# Altium schematic symbol library 8ch_RGB_Controller.SCHLIB: 19 symbols
Pins are listed as number, name and electrical type; pins without a type are passive.

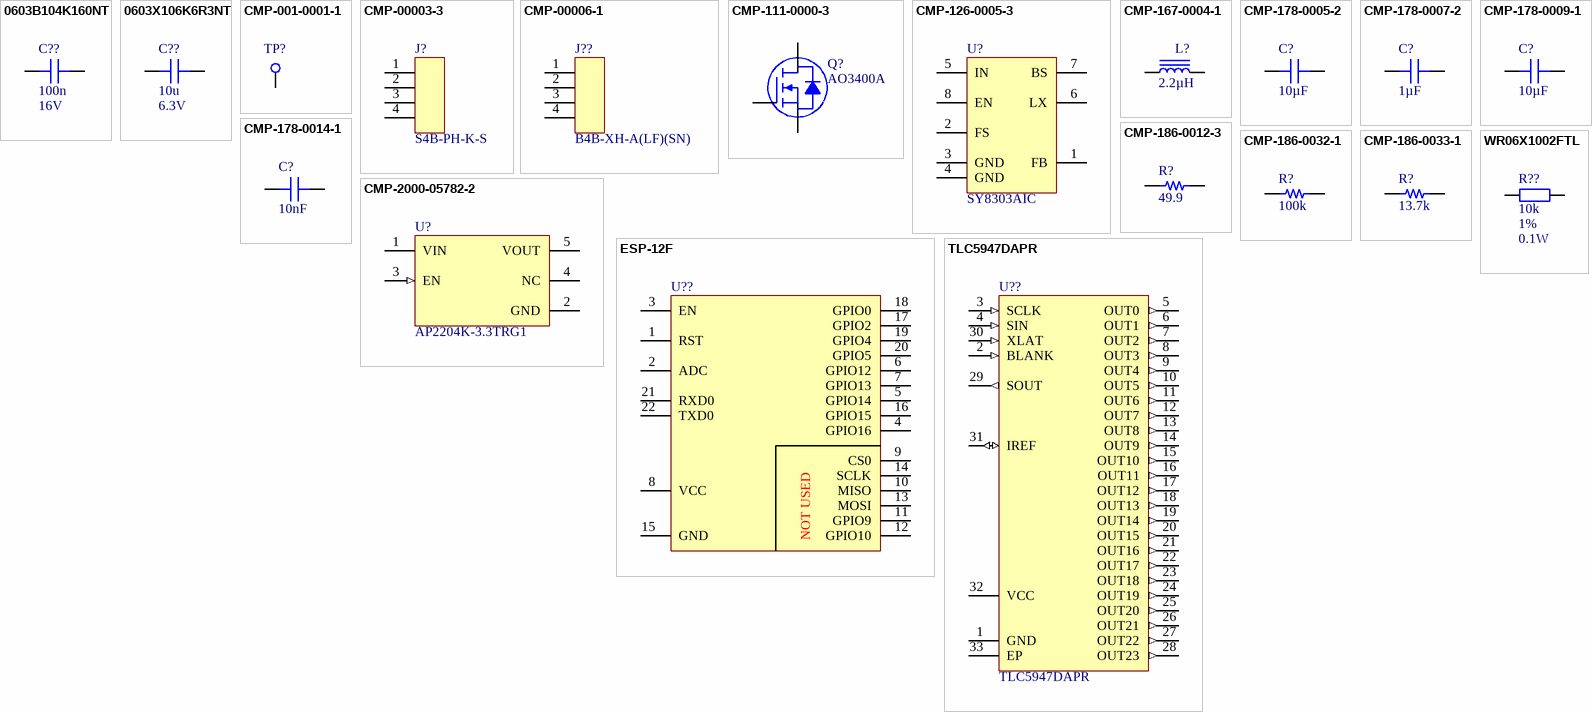
[diagram p0: symbols 0603B104K160NT to WR06X1002FTL]

## 0603B104K160NT
designator C??  Capacitance: 100n  Voltage - Rated: 16V  (hidden comment: 0603B104K160NT)
16V 100nF X7R ±10% 0603 Multilayer Ceramic Capacitors MLCC - SMD/SMT ROHS; Manufacturer: FH (Guangdong Fenghua Advanced Tech); Product Status: Active; PartNumber: 0603B104K160NT; ComponentLink1URL: https://datasheet.lcsc.com/lcsc/2201241400_FH--Guangdong-Fenghua-Advanced-Tech-0603B104K160NT_C2846678.pdf; ComponentLink1Description: Datasheet; Package: 0603; Series: -; Tolerance: 10%; Temperature Coefficient: X7R; Operating Temperature: -55 - 125 ℃; Features: -; Ratings: -; Applications: -; Failure Rate: -; Mounting Type: SMT; Package/Case: 0603; Size/Dimension: 1.6 x 0.8mm; Height-Seated (Max): 0.8mm; Thickness (Max): -; Lead Spacing: -; Lead Style: -
footprint CAPC1608X09N
pins: 1, 2

## 0603X106K6R3NT
designator C??  Capacitance: 10u  Voltage - Rated: 6.3V  (hidden comment: 0603X106K6R3NT)
6.3V 10uF X5R ±10% 0603 Multilayer Ceramic Capacitors MLCC - SMD/SMT ROHS; Manufacturer: FH (Guangdong Fenghua Advanced Tech); Product Status: Active; PartNumber: 0603X106K6R3NT; ComponentLink1URL: https://datasheet.lcsc.com/lcsc/2201241400_FH--Guangdong-Fenghua-Advanced-Tech-0603B104K160NT_C2846678.pdf; ComponentLink1Description: Datasheet; Package: 0603; Series: -; Tolerance: 10%; Temperature Coefficient: X5R; Operating Temperature: -55 - 125 ℃; Features: -; Ratings: -; Applications: -; Failure Rate: -; Mounting Type: SMT; Package/Case: 0603; Size/Dimension: 1.6 x 0.8mm; Height-Seated (Max): 0.8mm; Thickness (Max): -; Lead Spacing: -; Lead Style: -
footprint CAPC1608X09N
pins: 1, 2

## CMP-001-0001-1
designator TP?, comment TP_TH_1MM  (value not drawn)
Test point, 1mm, TH; Test signal: Test
footprint TP_TH_1MM_N (TP_TH_1MM)
footprint TP_TH_1MM_M (TP_TH_1MM)
footprint TP_TH_1MM_L (TP_TH_1MM)
pins: 1 TP

## CMP-00003-3
designator J?, comment S4B-PH-K-S
JST (JAPAN SOLDERLESS TERMINALS) - S4B-PH-K-S (LF)(SN) - CONNECTOR, HEADER, 2MM, 4 POSITION, 1ROW; Voltage: 100V; Number of Contacts: 4; Current Rating: 2A; Connector Type: Male Pin; Contact Resistance: 10m; Insulation Resistance: 1G; Gender: Male; Termination: Solder; Contact Mating Length: 0.13inch; Orientation: Right Angle; Pitch: 2mm; Packaging: Bulk; Contact Material: Tin,Brass,Bronze; Flammability Rating: UL94 V-0; Fastening Type: Detent; REACH SVHC: No SVHC; Max Operating Temperature: 85°C; Width: 4.5mm; Voltage Rating: 100V; Voltage Rating (DC): 100V; Voltage Rating (AC): 100V; Lead Pitch: 2mm; Max Current Rating: 2A; Length: 9.9mm; Color: Natural,White; Height: 9.4mm; Current: 2A; Mount: Through Hole; Number of Poles: 4; Max Voltage Rating (DC): 100V; Contact Plating: Tin; Max Voltage Rating (AC): 100V; Lead Free: Lead Free; Number of Positions: 4; Number of Rows: 1; Housing Color: Natural; Min Operating Temperature: -25°C; Number of Pins: 4; Operating Supply Voltage: 100V; Working Voltage: 100V
footprint S4B-PH-K-S (Header, Right Angle Shrouded, 2.00 mm pitch; 0.50 mm lead width, 4 pins, 1 row, 4 pins per row, 9.90 mm L X 7.60 mm W X 4.80 mm H body)
pins: 1, 2, 3, 4

## CMP-00006-1
designator J??, comment B4B-XH-A(LF)(SN)
JST (JAPAN SOLDERLESS TERMINALS) - B4B-XH-A (LF)(SN) - Wire-To-Board-Steckverbinder, vertikal, 2.5 mm, 4 Kontakt(e), Stiftleiste, Baureihe XH; Voltage Rating (AC): 250V; Connector Type: Male Pin; Insulation Resistance: 1G; Current: 3A; Contact Resistance: 2m; Number of Positions: 4; Pitch: 2.5mm; Wire/Cable Gauge: 22AWG; Gender: Male; Number of Rows: 1; Max Operating Temperature: 85°C; Housing Color: White; Housing Material: Polyamide; Color: Natural; Length: 12.4mm; Contact Plating: Tin,Copper,Lead; Orientation: Straight; Lead Pitch: 2.5mm; Max Voltage Rating (AC): 250V; Contact Material: Brass; Termination: Press-Fit; Max Voltage Rating (DC): 250V; REACH SVHC: No SVHC; Lead Free: Lead Free; Max Current Rating: 3A; Depth: 5.75mm; Number of Contacts: 4; Voltage Rating: 250V; Packaging: Bulk; Min Operating Temperature: -25°C; Material: Polyamide; Current Rating: 3A; Mount: Through Hole; Package Quantity: 500
footprint B4B-XH-A (Header, Vertical Shrouded, 2.54 mm pitch; 0.64 mm lead width, 4 pins, 1 row, 4 pins per row, 12.40 mm L X 5.75 mm W X 7.00 mm H body)
pins: 1, 2, 3, 4

## CMP-111-0000-3
designator Q?, comment AO3400A
Trans MOSFET N-CH 30V 5.7A 3-Pin SOT-23; Manufacturer: Alpha & Omega Semiconductor; Power Dissipation: 1.4W; Rds On Max: 26.5m; Number of Elements: 1; Input Capacitance: 630pF; Gate to Source Voltage (Vgs): 12V; Max Operating Temperature: 150°C; Number of Pins: 3; Radiation Hardening: No; Manufacturer Part Number: AO3400A; Drain to Source Voltage (Vdss): 30V; Packaging: Tape and Reel; Mount: Surface Mount; Case/Package: SOT-23; Continuous Drain Current (ID): 5.7A; Min Operating Temperature: -55°C; Lead Free: Lead Free; Max Power Dissipation: 1.4W
footprint SOT95P237X112-3M (SOT23, 3-Leads, Body 2,93x2,37mm, Pitch 0,95mm, IPC Low Density)
footprint SOT95P237X112-3L (SOT23, 3-Leads, Body 2,93x2,37mm, Pitch 0,95mm, IPC High Density)
footprint SOT95P237X112-3N (SOT23, 3-Leads, Body 2,93x2,37mm, Pitch 0,95mm, IPC Medium Density)
pins: 1 G, 2 S, 3 D

## CMP-126-0005-3
designator U?, comment SY8303AIC
High Efficiency, Fast Response, 3A, 40V Input, Synchronous Step Down Regulator; Manufacturer: Silergy; Min Input Voltage (DC): 4.5V; Frequency: 2.5MHz; Number of Outputs: 1; Efficiency: 98; Height: 1.1mm; Width: 3mm; Max Input Voltage: 40V; Case/Package: TSOT23-8; Length: 3mm; Number of Pins: 8; Max Input Voltage (DC): 40V; Current - Output 1: 3A; Output Current: 3A; Min Input Voltage: 4.5V; Manufacturer Part Number: SY8303AIC; Max Operating Temperature: 105°C; Max Output Current: 3A; Mount: SMT; Min Operating Temperature: -40°C
footprint SOT65P280X110-8N (Small Outline Transistor (SOT23), 0.65 mm pitch; 8 pin, 2.90 mm L X 1.60 mm W X 1.10 mm H body)
footprint SOT65P280X110-8M (Small Outline Transistor (SOT23), 0.65 mm pitch; 8 pin, 2.90 mm L X 1.60 mm W X 1.10 mm H body)
footprint SOT65P280X110-8L (Small Outline Transistor (SOT23), 0.65 mm pitch; 8 pin, 2.90 mm L X 1.60 mm W X 1.10 mm H body)
pins: 1 FB, 2 FS, 3 GND (power), 4 GND (power), 5 IN (power), 6 LX, 7 BS, 8 EN

## CMP-167-0004-1
designator L?, comment Inductance: 2.2µH  (hidden comment: CMLF0504-2R2MTT)
2.2uH ±20% 4.8A 35mΩ SMD,5.8x5.2x4.5mm Power Inductors RoHS; Manufacturer: Cybermax; Core Material: Ferrite; Current Rating: 3.8A; DC Resistance (DCR): 35m; RMS Current (Irms): 3A; Length: 5.8mm; Saturation Current: 3.8A; Manufacturer Part Number: CMLF0504-2R2MTT; Mount: SMT; Case/Package: 5.8*5.2*4.5; Height: 4.5mm; Inductance Tolerance: 20%; Height - Seated (Max): 4.5mm; Tolerance: 20%; Current: 3.8A; Width: 5.2mm; Max DC Current: 3.8A; Number of Pins: 2; DC Current: 3.8A
footprint INDP5852X48N (Precision Wire Wound Inductor, 2-Leads, Body 5,80x5,20mm, IPC Medium Density)
footprint INDP5852X48M (Precision Wire Wound Inductor, 2-Leads, Body 5,80x5,20mm, IPC Low Density)
footprint INDP5852X48L (Precision Wire Wound Inductor, 2-Leads, Body 5,80x5,20mm, IPC High Density)
pins: 1, 2

## CMP-178-0005-2
designator C?, comment Capacitance: 10µF  (hidden comment: CL21B106KOQNNNE)
SAMSUNG ELECTRO-MECHANICS - CL21B106KOQNNNE. - CAP, 10UF, 16V, MLCC, 0805; Dielectric Material: X7R; Tolerance: 10%; Packaging: Tape and Reel; Package Quantity: 1; Dielectric: X7R; Mount: Surface Mount; Case Code (Imperial): 0805; Thickness: 1.397mm; Min Operating Temperature: -55°C; Length: 2mm; Manufacturer Part Number: CL21B106KOQNNNE; Voltage: 16V; Radiation Hardening: No; Number of Pins: 2; Depth: 1.25mm; Voltage Rating (DC): 16V; Height: 1.25mm; Max Operating Temperature: 125°C; Contact Plating: Tin; Case/Package: 0805; Case Code (Metric): 2012; Width: 1.2446mm; Voltage Rating: 16V; Manufacturer: SAMSUNG ELECTRO-MECHANICS
footprint CAPC2012X13N (Chip Capacitor, 2-Leads, Body 2.00x1.25mm, IPC Medium Density)
footprint CAPC2012X13M (Chip Capacitor, 2-Leads, Body 2.00x1.25mm, IPC Low Density)
footprint CAPC2012X13L (Chip Capacitor, 2-Leads, Body 2.00x1.25mm, IPC High Density)
pins: 1, 2

## CMP-178-0007-2
designator C?, comment Capacitance: 1µF  (hidden comment: GRM185R61C105KE44D)
GRM185R61C105KE44D <CA; Manufacturer: Murata; Voltage: 16V; Dielectric Material: X5R; Tolerance: 10%; Depth: 800µm; Termination: SMD/SMT; Height: 500µm; Lead Free: Lead Free; Case/Package: 0603; Case Code (Imperial): 0603; Max Operating Temperature: 85°C; Voltage Rating: 16V; Min Operating Temperature: -55°C; Mount: Surface Mount; Number of Pins: 2; Packaging: Tape and Reel; Width: 800µm; Radiation Hardening: No; Package Quantity: 1; Thickness: 508µm; Dielectric: X5R; Voltage Rating (DC): 16V; Case Code (Metric): 1608; Manufacturer Part Number: GRM185R61C105KE44D; Length: 1.6mm; REACH SVHC: No SVHC
footprint CAPC1608X08M (Chip Capacitor, 2-Leads, Body 1.60x0.80mm, IPC Low Density)
footprint CAPC1608X08L (Chip Capacitor, 2-Leads, Body 1.60x0.80mm, IPC High Density)
footprint CAPC1608X08N (Chip Capacitor, 2-Leads, Body 1.60x0.80mm, IPC Medium Density)
pins: 1, 2

## CMP-178-0009-1
designator C?, comment Capacitance: 10µF  (hidden comment: CL31A106KAHNNNE)
CAP CER 10UF 25V X5R 1206; Manufacturer: Samsung Electro-Mechanics; Tolerance: 10%; Max Operating Temperature: 85°C; Case/Package: 1206; Case Code (Metric): 3216; Contact Plating: Tin; Depth: 1.6mm; Number of Pins: 2; Height: 1.6mm; Voltage: 25V; Voltage Rating: 25V; Dielectric Material: X5R; Lead Free: Lead Free; Dielectric: X5R; Width: 1.6002mm; Voltage Rating (DC): 25V; Case Code (Imperial): 1206; Min Operating Temperature: -55°C; Length: 3.2mm; Radiation Hardening: No; Thickness: 1.8034mm; Packaging: Tape and Reel; Mount: Surface Mount; Manufacturer Part Number: CL31A106KAHNNNE
footprint CAPC3216X16N (Chip Capacitor, 2-Leads, Body 3.20x1.60mm, IPC Medium Density)
footprint CAPC3216X16M (Chip Capacitor, 2-Leads, Body 3.20x1.60mm, IPC Low Density)
footprint CAPC3216X16L (Chip Capacitor, 2-Leads, Body 3.20x1.60mm, IPC High Density)
pins: 1, 2

## CMP-178-0014-1
designator C?, comment Capacitance: 10nF  (hidden comment: CC0603KRX7R9BB103)
10nF ±10% 50V X7R 0603 Multilayer Ceramic Capacitors MLCC - SMD/SMT RoHS; Manufacturer: Yageo; Insulation Resistance: 100G; Tolerance: 10%; Case Code (Imperial): 0603; Number of Pins: 2; Packaging: Tape and Reel; Voltage Rating (DC): 50V; Case/Package: 0603; Voltage: 50V; REACH SVHC: No SVHC; Manufacturer Part Number: CC0603KRX7R9BB103; Package Quantity: 1; Min Operating Temperature: -55°C; Mount: Surface Mount; Voltage Rating: 50V; Thickness: 889µm; Radiation Hardening: No; Lead Free: Lead Free; Width: 787.4µm; Case Code (Metric): 1608; Termination: SMD/SMT; Halogen Free: Halogen Free; Depth: 800µm; Height: 800µm; Length: 1.6mm; Max Operating Temperature: 125°C; Dielectric: X7R
footprint CAPC1608X08N (Chip Capacitor, 2-Leads, Body 1.60x0.80mm, IPC Medium Density)
footprint CAPC1608X08M (Chip Capacitor, 2-Leads, Body 1.60x0.80mm, IPC Low Density)
footprint CAPC1608X08L (Chip Capacitor, 2-Leads, Body 1.60x0.80mm, IPC High Density)
pins: 1, 2

## CMP-186-0012-3
designator R?, comment Resistance: 49.9  (hidden comment: RC0603FR-0749R9L)
Yageo RC Series Thick Film Surface Mount Resistor 0603 Case 49.9 1% 0.1W 100ppm/C; Temperature Coefficient: 100ppm/°C; Voltage Rating: 50V; Power Rating: 100mW; Case Code (Imperial): 0603; Lead Free: Lead Free; Case/Package: 0603; Case Code (Metric): 1608; Depth: 800µm; Max Operating Temperature: 155°C; Length: 1.6mm; Tolerance: 1%; Manufacturer: Yageo; Military Standard: Not; Manufacturer Part Number: RC0603FR-0749R9L; REACH SVHC: No SVHC; Min Operating Temperature: -55°C; Number of Pins: 2; Termination: SMD/SMT; Voltage Rating (DC): 50V; Packaging: Tape and Reel; Composition: Thick Film; Height: 450µm
footprint RESC1608X06N (Chip Resistor, 2-Leads, Body 1,60x0,80mm, IPC Medium Density)
footprint RESC1608X06L (Chip Resistor, 2-Leads, Body 1,60x0,80mm, IPC High Density)
footprint RESC1608X06M (Chip Resistor, 2-Leads, Body 1,60x0,80mm, IPC Low Density)
pins: 1, 2

## CMP-186-0032-1
designator R?, comment Resistance: 100k  (hidden comment: RC0603FR-13100KL)
Res Thick Film 0603 100K Ohm 1% 0.1W(1/10W) ±100ppm/C Pad SMD T/R; Manufacturer: Yageo; Voltage Rating: 50V; Power Rating: 100mW; Number of Contacts: 2; Temperature Coefficient: 100ppm/°C; Mount: SMT; Resistor Type: Thick Film; Length: 1.6mm; Lead Free: Lead Free; Depth: 800µm; Height: 450µm; Width: 800µm; Case/Package: 0603; Voltage Rating (DC): 50V; REACH SVHC: Unknown; Number of Terminations: 2; Tolerance: 1%; Military Standard: Not; Case Code (Imperial): 0603; Termination: SMD/SMT; Packaging: Tape and Reel; Manufacturer Part Number: RC0603FR-13100KL; Number of Pins: 2; Min Operating Temperature: -55°C; Max Operating Temperature: 155°C; Case Code (Metric): 1608
footprint RESC1608X06N (Chip Resistor, 2-Leads, Body 1,60x0,80mm, IPC Medium Density)
footprint RESC1608X06M (Chip Resistor, 2-Leads, Body 1,60x0,80mm, IPC Low Density)
footprint RESC1608X06L (Chip Resistor, 2-Leads, Body 1,60x0,80mm, IPC High Density)
pins: 1, 2

## CMP-186-0033-1
designator R?, comment Resistance: 13.7k  (hidden comment: RC0603FR-0713K7L)
13.7kΩ ±1% 0.1W ±100ppm/℃ 0603 Chip Resistor - Surface Mount RoHS; Manufacturer: Yageo; Voltage Rating: 75V; Temperature Coefficient: 100ppm/°C; Number of Contacts: 2; Voltage Rating (DC): 50V; Power Rating: 100mW; Width: 800µm; Military Standard: Not; Weight: 2.0128mg; Case/Package: 0603; Length: 1.6mm; Case Code (Imperial): 0603; Lead Free: Lead Free; Number of Pins: 2; Depth: 800µm; Max Operating Temperature: 155°C; Height: 450µm; Packaging: Tape and Reel; Manufacturer Part Number: RC0603FR-0713K7L; Termination: SMD/SMT; Tolerance: 1%; Number of Terminations: 2; Case Code (Metric): 1608; Mount: SMT; Min Operating Temperature: -55°C
footprint RESC1608X06N (Chip Resistor, 2-Leads, Body 1,60x0,80mm, IPC Medium Density)
footprint RESC1608X06M (Chip Resistor, 2-Leads, Body 1,60x0,80mm, IPC Low Density)
footprint RESC1608X06L (Chip Resistor, 2-Leads, Body 1,60x0,80mm, IPC High Density)
pins: 1, 2

## CMP-2000-05782-2
designator U?, comment AP2204K-3.3TRG1
IC REG LINEAR 3.3V 150MA SOT23-5; Manufacturer: Diodes; Max Input Voltage: 24V; Min Input Voltage: 2.3V; Quiescent Current: 50uA; Number of Regulators: 1; Max Output Current: 250mA; Reference Voltage: 1.24V; Output Type: Fixed; Polarity: Positive; Dropout Voltage: 360mV; Weight: 0.001058oz; Min Operating Temperature: -40°C; Output Current: 150mA; Lead Free: Lead Free; Length: 3.02mm; Height: 1.3mm; Width: 1.7mm; Case/Package: SOT-23-5; Max Operating Temperature: 85°C; Package Quantity: 3000; Mount: Surface Mount; Output Voltage: 3.3V; Number of Pins: 5; Packaging: Tape and Reel; Number of Outputs: 1; Manufacturer Part Number: AP2204K-3.3TRG1
footprint FP-SOT25-IPC_C
footprint FP-SOT25-IPC_A
footprint FP-SOT25-MFG
footprint FP-SOT25-IPC_B
pins: 1 VIN (power), 2 GND (power), 3 EN (in), 4 NC, 5 VOUT (power)

## ESP-12F
designator U??  (value not drawn)
WIFI Module based on ESP8266EX; Manufacturer: Shenzhen Ai-Thinker Technology; Product Status: Active; RF Family/Standard: Wi-Fi; Protocol: 802.11b/g/n; Frequency: 2400 MHz ~ 2483.5 MHz; Data Rate: 72.2 Mbps; Power - Output: +17dBm max; Serial Interfaces: SPI, I2C, UART; Memory Size: 4MB Flash; Voltage - Supply: 3.0-3.6V; Current - Receiving: 0.056A; Current - Transmitting: 0.17A (peak up to 500mA); PartNumber: ESP-12F; ComponentLink1URL: https://docs.ai-thinker.com/_media/esp8266/docs/esp-12f_product_specification_en.pdf; ComponentLink1Description: Datasheet; Package: SMD-22; Series: -; Modulation: -; Sensitivity: -; Antenna Type: -; Utilized IC / Part: -; Mounting Type: SMT; Operating Temperature: -20 - 85 °C; Package / Case: SMD-22
footprint ESP-12F
pins: 1 RST, 2 ADC, 3 EN, 4 GPIO16, 5 GPIO14, 6 GPIO12, 7 GPIO13, 8 VCC, 9 CS0, 10 MISO, 11 GPIO9, 12 GPIO10, 13 MOSI, 14 SCLK, 15 GND, 16 GPIO15, 17 GPIO2, 18 GPIO0, 19 GPIO4, 20 GPIO5, 21 RXD0, 22 TXD0
text: NOT USED

## TLC5947DAPR
designator U??
LED Driver HTSSOP-32; Manufacturer: Texas Instruments; Product Status: Active; Topology: Shift register; Internal Switch(s): Yes; Number of Outputs: 24; Voltage - Supply (Min): 3V; Voltage - Supply (Max): 5.5V; Voltage - Output: 30V; Current - Output / Channel: 0.03A; Frequency: 4MHz; ComponentLink1URL: https://www.ti.com/lit/gpn/tlc5947; ComponentLink1Description: Datasheet; Package: TSOP-32EP; Series: -; Type: Linear; Dimming: -; Applications: Backlight; Operating Temperature: -40 - 85 °C; Mounting Type: SMT; Package / Case: TSOP-32EP; PartNumber: TLC5947DAPR
footprint TSOP65P810X120_HS-33N
pins: 1 GND (power), 2 BLANK (in), 3 SCLK (in), 4 SIN (in), 5 OUT0 (out), 6 OUT1 (out), 7 OUT2 (out), 8 OUT3 (out), 9 OUT4 (out), 10 OUT5 (out), 11 OUT6 (out), 12 OUT7 (out), 13 OUT8 (out), 14 OUT9 (out), 15 OUT10 (out), 16 OUT11 (out), 17 OUT12 (out), 18 OUT13 (out), 19 OUT14 (out), 20 OUT15 (out), 21 OUT16 (out), 22 OUT17 (out), 23 OUT18 (out), 24 OUT19 (out), 25 OUT20 (out), 26 OUT21 (out), 27 OUT22 (out), 28 OUT23 (out), 29 SOUT (out), 30 XLAT (in), 31 IREF (io), 32 VCC (power), 33 EP (power)

## WR06X1002FTL
designator R??  Resistance: 10k  Tolerance: 1%  Power (Watts): 0.1W  (hidden comment: WR06X1002FTL)
100mW 75V ±100ppm/℃ ±1% -55℃~+155℃ 10kΩ 0603 Chip Resistor - Surface Mount ROHS; Manufacturer: Walsin Tech Corp; Product Status: Active; PartNumber: WR06X1002FTL; ComponentLink1URL: https://datasheet.lcsc.com/lcsc/1811151132_Walsin-Tech-Corp-WR06X1002FTL_C108449.pdf; ComponentLink1Description: Datasheet; Package: 0603; Series: -; Composition: -; Features: -; Temperature Coefficient: 100ppm/℃; Operating Temperature: -55 -155 ℃; Package/Case: 0603; Ratings: 75V; Size/Dimension: 1.6 x 0.8mm; Height-Seated (Max): 0.6mm; Number of Terminations: -; Failure Rate: -
footprint RESC1608X06N
pins: 1, 2